# Altium integrated library KF350.IntLib: 14 symbols
Pins are listed as number, name and electrical type; pins without a type are passive.

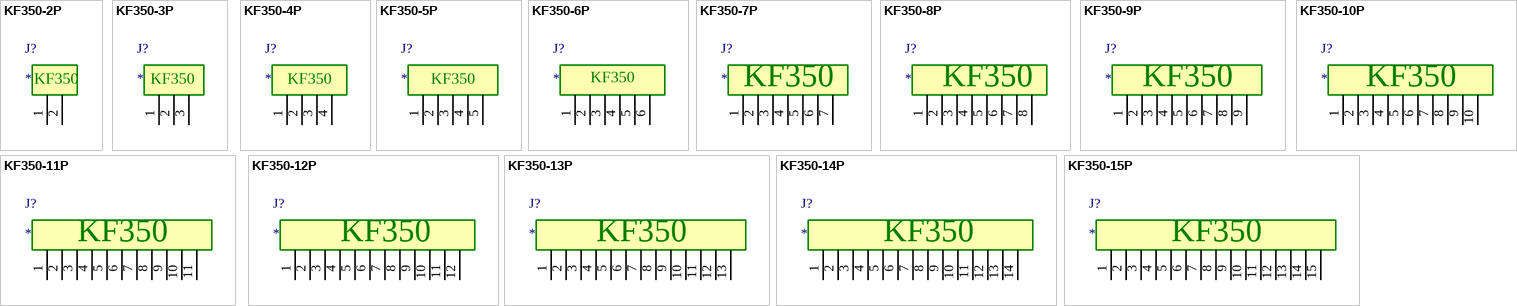
[diagram p0: symbols KF350-2P to KF350-15P]

## KF350-2P
designator J?
footprint KF350-2P (可拼接端子/10A)
pins: 1, 2
text: KF350

## KF350-3P
designator J?
footprint KF350-3P (可拼接端子/10A)
pins: 1, 2, 3
text: KF350

## KF350-4P
designator J?
footprint KF350-4P (可拼接端子/10A)
pins: 1, 2, 3, 4
text: KF350

## KF350-5P
designator J?
footprint KF350-5P (可拼接端子/10A)
pins: 1, 2, 3, 4, 5
text: KF350

## KF350-6P
designator J?
footprint KF350-6P (可拼接端子/10A)
pins: 1, 2, 3, 4, 5, 6
text: KF350

## KF350-7P
designator J?
footprint KF350-7P (可拼接端子/10A)
pins: 1, 2, 3, 4, 5, 6, 7
text: KF350

## KF350-8P
designator J?
footprint KF350-8P (可拼接端子/10A)
pins: 1, 2, 3, 4, 5, 6, 7, 8
text: KF350

## KF350-9P
designator J?
footprint KF350-9P (可拼接端子/10A)
pins: 1, 2, 3, 4, 5, 6, 7, 8, 9
text: KF350

## KF350-10P
designator J?
footprint KF350-10P (可拼接端子/10A)
pins: 1, 2, 3, 4, 5, 6, 7, 8, 9, 10
text: KF350

## KF350-11P
designator J?
footprint KF350-11P (可拼接端子/10A)
pins: 1, 2, 3, 4, 5, 6, 7, 8, 9, 10, 11
text: KF350

## KF350-12P
designator J?
footprint KF350-12P (可拼接端子/10A)
pins: 1, 2, 3, 4, 5, 6, 7, 8, 9, 10, 11, 12
text: KF350

## KF350-13P
designator J?
footprint KF350-13P (可拼接端子/10A)
pins: 1, 2, 3, 4, 5, 6, 7, 8, 9, 10, 11, 12, 13
text: KF350

## KF350-14P
designator J?
footprint KF350-14P (可拼接端子/10A)
pins: 1, 2, 3, 4, 5, 6, 7, 8, 9, 10, 11, 12, 13, 14
text: KF350

## KF350-15P
designator J?
footprint KF350-15P (可拼接端子/10A)
pins: 1, 2, 3, 4, 5, 6, 7, 8, 9, 10, 11, 12, 13, 14, 15
text: KF350